# Altium footprint library C0603.PcbLib: 1 footprints
Each footprint in its own frame and in the unit in brackets; x right, y up, seen from the top. Pads: shape width x height; smd on the part's side, far side on the other; paste and mask are expansions set on the pad; w line width, h text height; cw(c..) or ccw(c..) is an arc to the next point about the centre after c.
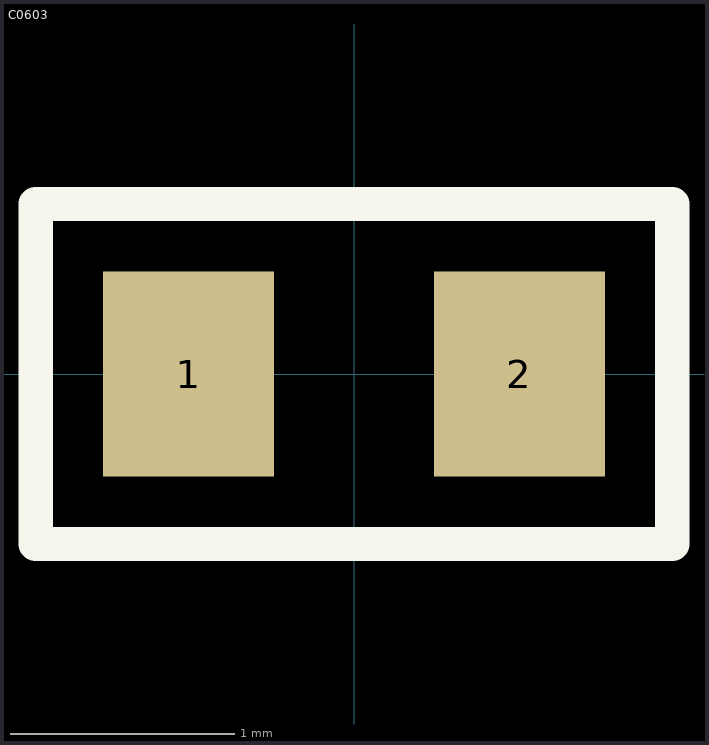
[diagram p0: the footprint, top view; thin cyan lines are the x and y axes]

## C0603 [mil] "Chip Capacitor Body 1.6 x 0.8 mm (LxW typ)"
height 24.02
pads (2):
  rect 30x35.98 smd: 1(-29,0) 2(29,0)
Top Overlay:
  lines w6: -55.83,-29.84 -55.83,29.84 55.83,29.84 55.83,-29.84 -55.83,-29.84
3D body: height 14.72, standoff 0, extent -31.5,-15.79 31.5,15.79
3D body: height 0, standoff 0, extent -55.83,-29.84 55.83,29.84